# Altium footprint library Misc.PcbLib: 150 footprints (part 2 of 10)
Each footprint in its own frame and in the unit in brackets; x right, y up, seen from the top. Pads: shape width x height; smd on the part's side, far side on the other; paste and mask are expansions set on the pad; w line width, h text height; cw(c..) or ccw(c..) is an arc to the next point about the centre after c.
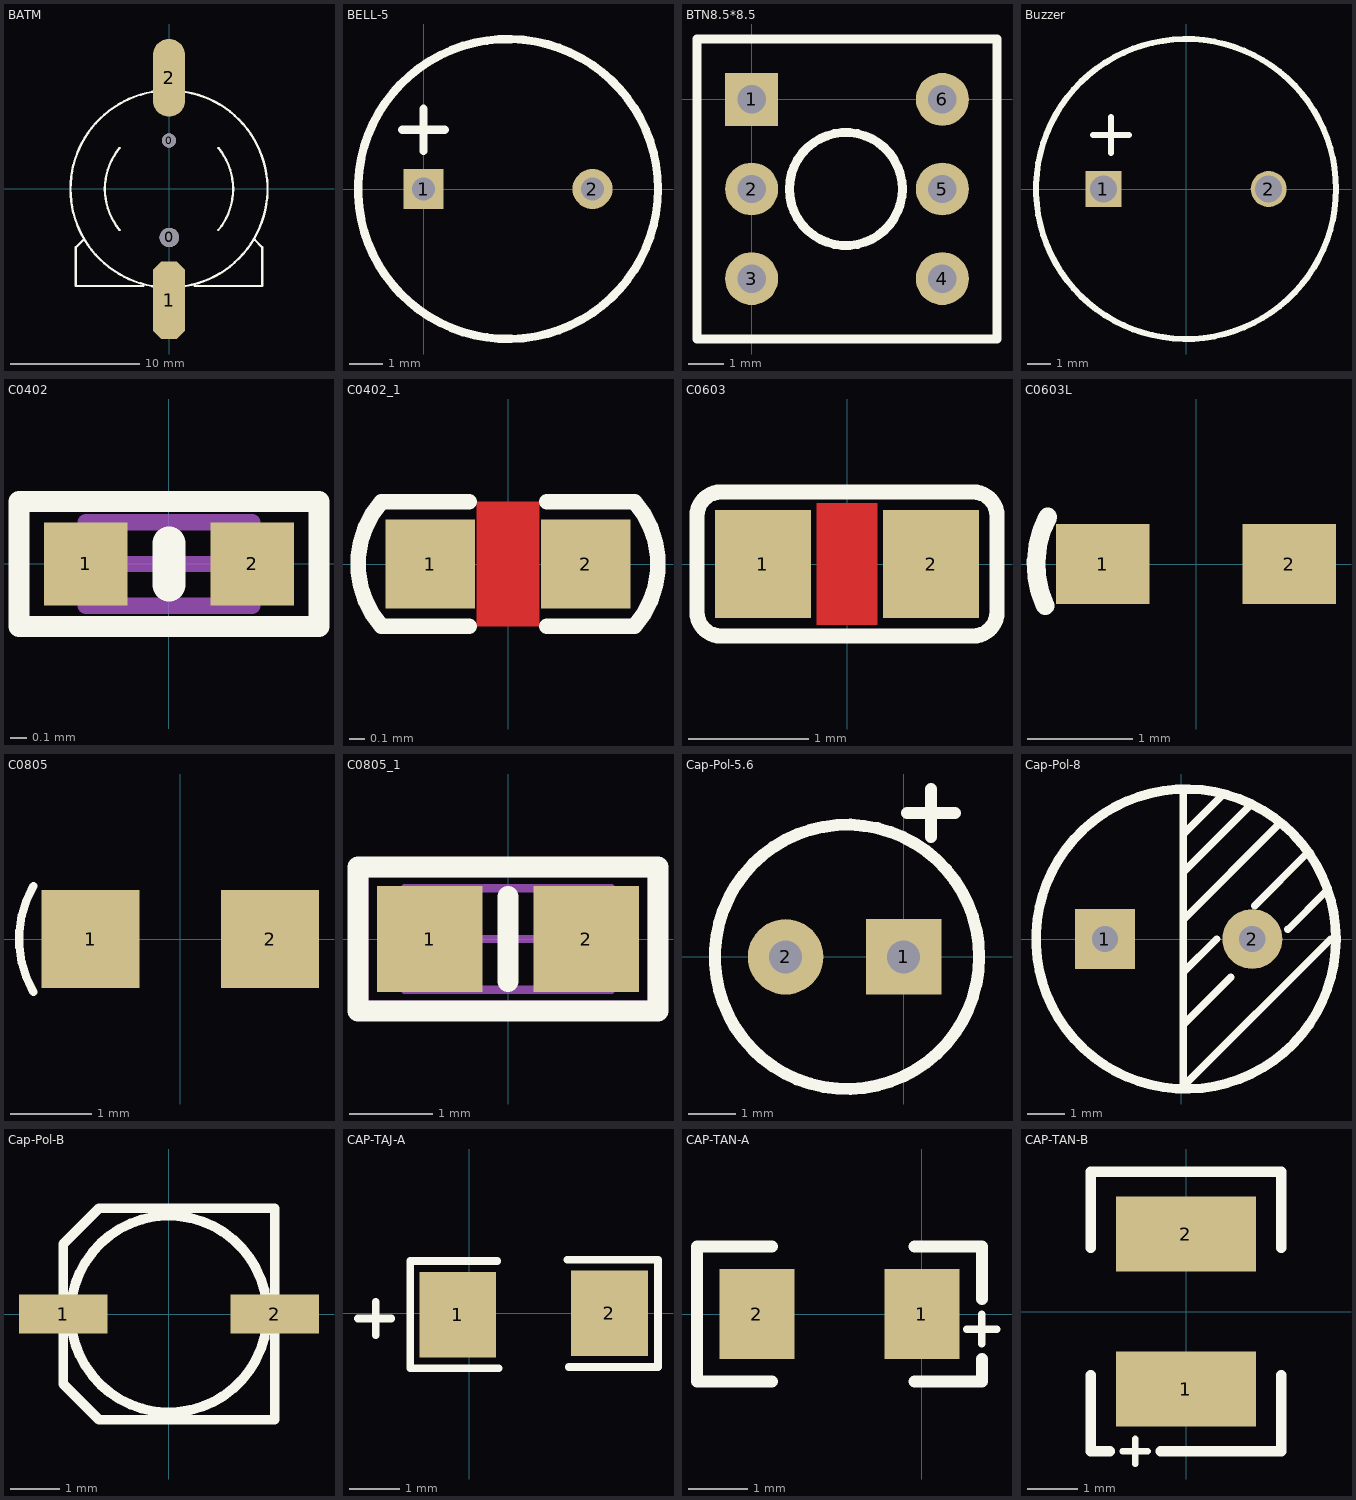
[diagram p1: the footprints below, top view; thin cyan lines are the x and y axes]

## BATM [mm]
pads (4):
  round 1.1 hole 1.1 unplated: 0(0,3.748)
  round 1.5 hole 1.5 unplated: 0(0.025,-3.752)
  oct 2.5x6 smd: 1(0,-8.602)
  oval 2.5x6 smd: 2(0,8.598)
Top Overlay:
  lines w0.178: -6.6,-3.902 -7.2,-4.502 -7.2,-7.502 -2,-7.502 ; -3.815,-3.171 cw(c0,-0.002) -3.812,3.171 ; -0.833,-7.576 cw(c0,-0.002) -7.62,-0.002 cw(c0,-0.002) -0.833,7.573 ; 0.833,-7.576 ccw(c0,-0.002) 0.833,7.573 ; 2,-7.502 7.2,-7.502 7.2,-4.502 6.625,-3.927 ; 3.81,-3.177 ccw(c0,-0.002) 3.812,3.171

## BELL-5 [mm]
pads (2):
  rect 1.2x1.2 hole 0.7: 1(0,0)
  round 1.2 hole 0.7: 2(5.08,0)
Top Overlay:
  circle w0.254: c2.54,0 r4.51
  lines w0.254: -0.635,1.778 0.635,1.778 ; 0,1.143 0,2.413

## BTN8.5*8.5 [mm]
pads (6):
  rect 1.5x1.5 hole 0.8: 1(0,0)
  round 1.5 hole 0.8: 2(0,-2.54) 3(0,-5.08) 4(5.4,-5.08) 5(5.4,-2.54) 6(5.4,0)
Top Overlay:
  circle w0.254: c2.667,-2.54 r1.6
  lines w0.254: -1.55,-6.79 6.95,-6.79 6.95,1.71 -1.55,1.71 -1.55,-6.79

## Buzzer [mil]
pads (2):
  rect 60x60 hole 45: 1(-137.8,0)
  round 60 hole 45: 2(137.8,0)
Top Overlay:
  circle w10: c0,0 r250
  lines w10: -155,90 -95,90 ; -125,60 -125,120

## C0402 [mil] "Surface mount capacitor 0402"
height 11.81
pads (2):
  rect 20x20 smd: 1(-20,0) 2(20,0)
Top Overlay:
  lines w5: -36,-15 -36,15 36,15 36,-15 -36,-15
  lines w8: 0,-5 0,5
Mechanical 13:
  lines w3.94: -20,-10 -20,10 20,10 20,-10 -20,-10
Mechanical 15:
  lines w3.94: -10,0 10,0 ; 0,-10 0,10 ; -36,-15 -36,15 36,15 36,-15 -36,-15
3D body: height 20.1, standoff 0, extent -20,-10 20,10

## C0402_1 [mm]
pads (2):
  rect 0.575x0.575 smd: 1(-0.5,0) 2(0.5,0)
Top Layer:
  pour cut-out: -0.2,0.4 0.2,0.4 0.2,-0.4 -0.2,-0.4
Top Overlay:
  lines w0.1: -0.25,-0.4 -0.813,-0.4 cw(c-0.359,0) -0.813,0.4 -0.25,0.4 ; 0.25,-0.4 0.813,-0.4 ccw(c0.359,0) 0.813,0.4 0.25,0.4
3D body: height 0.51, standoff 0, extent -0.508,-0.254 0.508,0.254

## C0603 [mil]
pads (2):
  rect 31.5x35.4 smd: 1(-27.56,0) 2(27.56,0)
Top Layer:
  pour cut-out: -10,20 -10,-20 10,-20 10,20
Top Overlay:
  lines w5: -49.21,-15.75 ccw(c-41.34,-15.75) -41.34,-23.62 41.34,-23.62 ccw(c41.34,-15.75) 49.21,-15.75 49.21,15.75 ccw(c41.34,15.75) 41.34,23.62 -41.34,23.62 ccw(c-41.34,15.75) -49.21,15.75 -49.21,-15.75

## C0603L [mil]
height 153.54
pads (2):
  rect 35x30 smd: 1(-35,0) 2(35,0)
Top Overlay:
  lines w7: -56.55,-15.71 cw(c-22.5,0) -55.59,17.65
3D body: height 23.62, standoff 0, extent -31,-16 31.99,15.5

## C0805 [mm]
pads (2):
  rect 1.2x1.2 smd: 1(-1.1,0) 2(1.1,0)
Top Overlay:
  lines w0.1: -1.801,-0.648 cw(c-0.7,0) -1.801,0.648
3D body: height 1.2, standoff 0, extent -0.991,-0.61 1.009,0.59

## C0805_1 [mil] "Surface mount capacitor 0805"
height 70
pads (2):
  rect 50x50 smd: 1(-37,0) 2(37,0)
Top Overlay:
  lines w10: 0,-20 0,20 ; -71,-34 71,-34 71,34 -71,34 -71,-34
Mechanical 13:
  lines w3.94: -49,-24 49,-24 49,24 -49,24 -49,-24
Mechanical 15:
  lines w3.94: -19.68,0 19.69,0 ; 0,-19.69 0,19.68 ; -68,-31 -68,31 68,31 68,-31 -68,-31
3D body: height 31.1, standoff 0, extent -49.37,-24.5 49.38,24.5

## Cap-Pol-5.6 [mm]
pads (2):
  rect 1.6x1.6 hole 0.7: 1(0,0)
  round 1.6 hole 0.7: 2(-2.5,0)
Top Overlay:
  circle w0.254: c-1.2,0 r2.8
  lines w0.254: 0.07,3.048 1.086,3.048 ; 0.578,2.54 0.578,3.556
3D body: height 7.3, standoff -1.2, extent -3.683,-2.496 1.315,2.496

## Cap-Pol-8 [mm]
pads (2):
  rect 1.6x1.6 hole 0.7: 1(-2.032,0)
  round 1.6 hole 0.7: 2(1.905,0)
Top Overlay:
  circle w0.254: c0.134,0 r4.007
  lines w0.2: 0.064,-2.413 0.064,-2.286 1.333,-1.016 ; 0.064,-0.889 0.953,0 ; 0.064,0.508 2.603,3.048 ; 0.064,1.651 0.064,1.778 1.841,3.556 ; 0.064,2.54 0.064,2.794 1.079,3.81 ; 0.064,3.937 0.064,-3.937 4,0 4.141,0 ; 1.968,0.889 3.365,2.286 ; 2.857,0.254 3.873,1.27

## Cap-Pol-B [mm]
height 5.5
pads (2):
  rect 1.8x0.8 smd: 1(-2.15,0) 2(2.15,0)
Top Overlay:
  circle w0.2: c0,0 r2
  lines w0.2: -1.433,-2.139 -2.15,-1.422 ; -1.433,2.139 -2.15,1.422 ; -2.15,-1.422 -2.15,1.422 ; -2.15,-1.422 -1.422,-2.15 2.15,-2.15 2.15,2.15 -1.422,2.15 -2.15,1.422
3D body: height 5.2, standoff 0, extent -2.286,-2.159 2.314,2.141

## CAP-TAJ-A [mil] "TAJ CAP A TYPE 3216"
height 200
pads (2):
  rect 60x66.93 smd: 1(-9,-1) 2(110,0)
Top Overlay:
  lines w6: -87,-4 -61,-4 ; -73,-17 -73,9 ; 22,41 -46,41 -46,-43 23,-43 ; 77,42 148,42 148,-42 78,-42

## CAP-TAN-A [mil]
height 39.37
pads (2):
  rect 50x60 smd: 1(0,0) 2(-110,0)
Top Overlay:
  lines w5: 30,-10 50,-10 ; 40,-20 40,0
  lines w8: -100,-45 -150,-45 -150,45 -100,45 ; -5,-45 40,-45 40,-30 ; -5,45 40,45 40,10

## CAP-TAN-B [mm]
height 5
pads (2):
  rect 2.8x1.5 smd: 1(0,-1.55) 2(0,1.55)
Top Overlay:
  lines w0.127: -1.27,-2.794 -0.762,-2.794 ; -1.016,-3.048 -1.016,-2.54
  lines w0.203: -1.905,-1.27 -1.905,-2.794 -1.524,-2.794 ; -1.905,1.27 -1.905,2.794 1.905,2.794 1.905,1.27 ; -0.508,-2.794 1.905,-2.794 1.905,-1.27
Mechanical 13:
  lines w0.1: -1.35,-1.7 1.35,-1.7 ; -1.35,1.7 1.35,1.7
3D body: height 1.9, standoff 0, extent -1.4,-1.75 1.4,1.75